# EAGLE library part DOGM_DISPLAY (library SKAARHOJ)
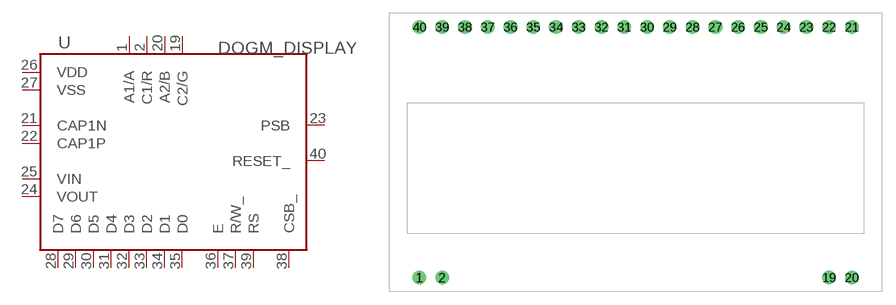
[diagram p37: symbol with the pads of DOGM; footprint DOGM]

Designator prefix -

## DOGM_DISPLAY  [DOGM]
1  A1/A
2  C1/R
19  C2/G
20  A2/B
21  CAP1N
22  CAP1P
23  PSB
24  VOUT
25  VIN
26  VDD  pwr
27  VSS  pwr
28  D7
29  D6
30  D5
31  D4
32  D3
33  D2
34  D1
35  D0
36  E
37  R/W_
38  CSB_
39  RS
40  RESET_

## Footprint DOGM (pad centres in mm)
drill 1.016: 1 -24.13,-12.19; 2 -21.59,-12.19; 19 21.59,-12.19; 20 24.13,-12.19; 21 24.13,15.75; 22 21.59,15.75; 23 19.05,15.75; 24 16.51,15.75; 25 13.97,15.75; 26 11.43,15.75; 27 8.89,15.75; 28 6.35,15.75; 29 3.81,15.75; 30 1.27,15.75; 31 -1.27,15.75; 32 -3.81,15.75; 33 -6.35,15.75; 34 -8.89,15.75; 35 -11.43,15.75; 36 -13.97,15.75; 37 -16.51,15.75; 38 -19.05,15.75; 39 -21.59,15.75; 40 -24.13,15.75